# Altium footprint library SOD.PcbLib: 3 footprints
Each footprint in its own frame and in the unit in brackets; x right, y up, seen from the top. Pads: shape width x height; smd on the part's side, far side on the other; paste and mask are expansions set on the pad; w line width, h text height; cw(c..) or ccw(c..) is an arc to the next point about the centre after c.
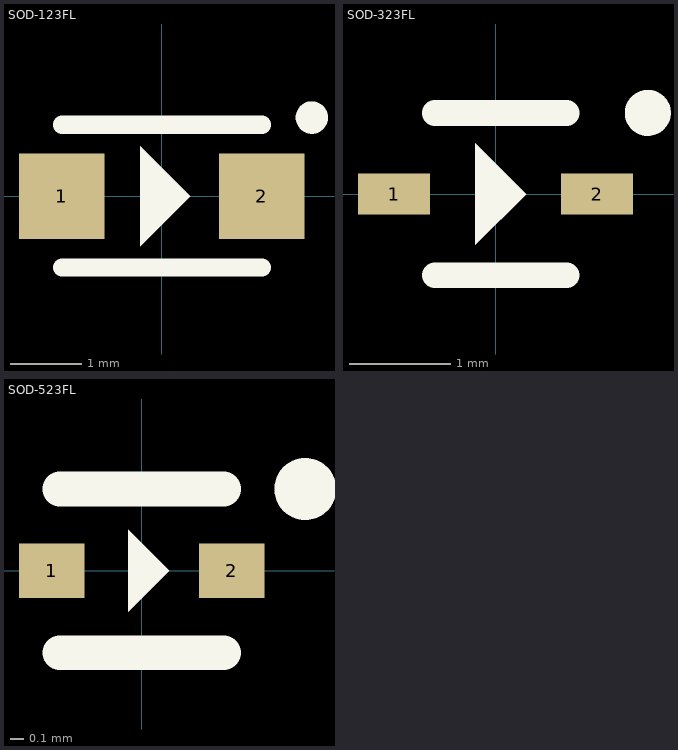
[diagram p0: the footprints below, top view; thin cyan lines are the x and y axes]

## SOD-123FL [mm]
pads (2):
  rect 1.2x1.2 smd: 1(-1.4,0) 2(1.4,0)
Top Overlay:
  circle w0.254: c2.1,1.1 r0.1
  region: -0.3,0.7 -0.3,-0.7 0.4,0
  lines w0.254: -1.4,-1 1.4,-1 ; -1.4,1 1.4,1
3D body "SOD-123FL.stp": height 1.1, standoff 0, extent -1.9,-0.8 1.9,0.8

## SOD-323FL [mm]
pads (2):
  rect 0.71x0.403 smd: 1(-1,0) 2(1,0)
Top Overlay:
  circle w0.254: c1.5,0.8 r0.1
  region: -0.2,0.5 -0.2,-0.5 0.3,0
  lines w0.254: -0.6,-0.8 0.7,-0.8 ; -0.6,0.8 0.7,0.8
3D body "SOD-323FL.stp": height 0.67, standoff 0, extent -1.25,-0.625 1.25,0.625

## SOD-523FL [mm]
pads (2):
  rect 0.48x0.4 smd: 1(-0.66,0) 2(0.66,0)
Top Overlay:
  circle w0.254: c1.2,0.6 r0.1
  region: -0.1,0.3 -0.1,-0.3 0.2,0
  lines w0.254: -0.6,-0.6 0.6,-0.6 ; -0.6,0.6 0.6,0.6
3D body "SOD-523FL.stp": height 0.6, standoff 0, extent -0.8,-0.4 0.8,0.4